# Altium integrated library WirelessDevice.IntLib: 29 symbols
Pins are listed as number, name and electrical type; pins without a type are passive.

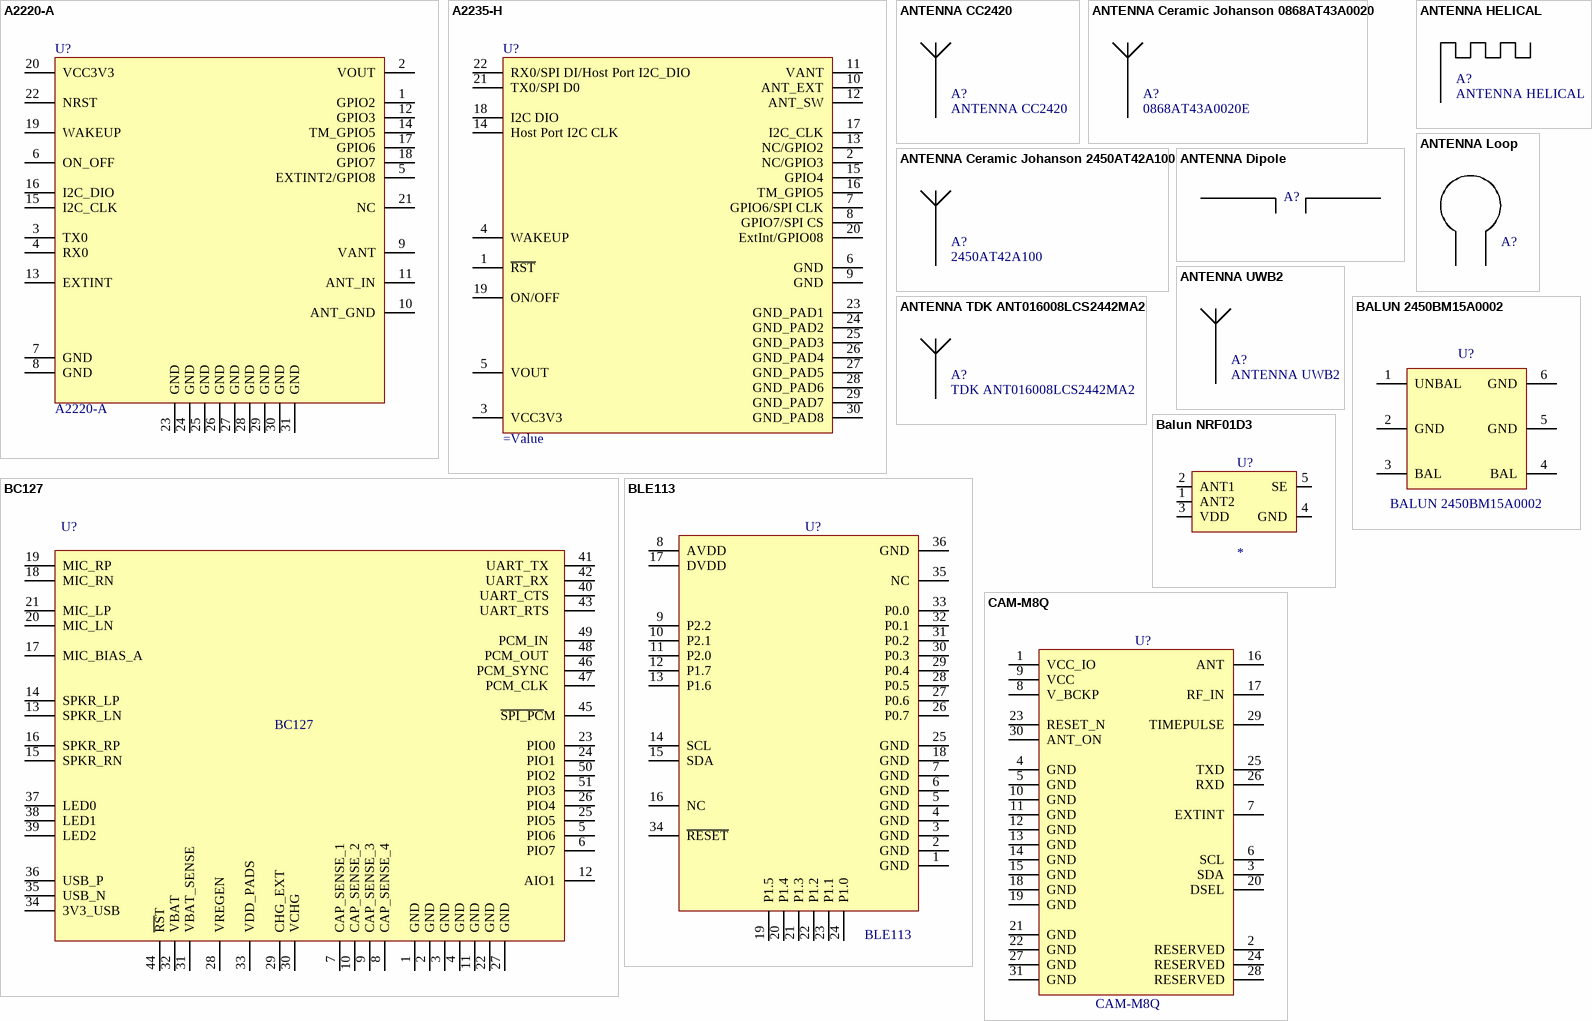
[diagram p0: symbols A2220-A to CAM-M8Q]

## A2220-A
designator U?
GPS Receiver Module; Value: A2220-A
footprint A2220-A (SMD, 22-Leads, Body 10.2x14.0mm)
pins: 1 GPIO2, 2 VOUT, 3 TX0, 4 RX0, 5 EXTINT2/GPIO8, 6 ON_OFF, 7 GND, 8 GND, 9 VANT, 10 ANT_GND, 11 ANT_IN, 12 GPIO3, 13 EXTINT, 14 TM_GPIO5, 15 I2C_CLK, 16 I2C_DIO, 17 GPIO6, 18 GPIO7, 19 WAKEUP, 20 VCC3V3, 21 NC, 22 NRST, 23 GND, 24 GND, 25 GND, 26 GND, 27 GND, 28 GND, 29 GND, 30 GND, 31 GND

## A2235-H
designator U?
Maestro’s GPS Antenna Receiver Module A2235-H
footprint A2235-H (SMD, 30-Leads, Body 17.8x16.6mm)
pins: 1 ~{RST} "Reset", 2 NC/GPIO3 "Leave open", 3 VCC3V3 "3.0 - 3.6 V DC", 4 WAKEUP "Status of digital section, Push-Pull output", 5 VOUT "Permanent 1.8V voltage output for up to 20mA current max", 6 GND "Ground (power supply)", 7 GPIO6/SPI CLK, 8 GPIO7/SPI CS, 9 GND "Ground (power supply)", 10 ANT_EXT "Leave open", 11 VANT "Host port I2C clock pin when module works in host port I2C mode", 12 ANT_SW "External interrupt input pin- reserved for future use, leave open", 13 NC/GPIO2 "Time Mark - 1PPS signal", 14 Host Port I2C CLK, 15 GPIO4, 16 TM_GPIO5 "Connect to push-pull output! This is mandatory! Connect it to WAKEUP pin for self-start mode", 17 I2C_CLK, 18 I2C DIO, 19 ON/OFF, 20 ExtInt/GPIO08 "Ground", 21 TX0/SPI D0 "Ground", 22 RX0/SPI DI/Host Port I2C_DIO "Ground", 23 GND_PAD1 "Ground", 24 GND_PAD2 "Ground", 25 GND_PAD3 "Ground", 26 GND_PAD4 "Ground", 27 GND_PAD5 "Ground", 28 GND_PAD6 "Ground", 29 GND_PAD7 "Ground", 30 GND_PAD8 "Ground"

## ANTENNA CC2420
designator A?
Value: ANTENNA CC2420
footprint ANTENNA CC2420 (PCB Antenna 2.4GHz)
pins: 1

## ANTENNA Ceramic Johanson 0868AT43A0020
designator A?, comment 0868AT43A0020E
ANTENNA Ceramic Johanson 0868AT43A0020; Value: 0868AT43A0020E
footprint ANTENNA Ceramic Johanson 0868AT43A0020 (868Mhz Ceramic Antenna C7.0x2.0)
footprint ANTENNA Ceramic Johanson 0868AT43A0020 With PI (868Mhz Ceramic Antenna C7.0x2.0)
pins: 1

## ANTENNA Ceramic Johanson 2450AT42A100
designator A?, comment 2450AT42A100
ANTENNA Ceramic Johanson 2450AT42A100; Value: 2450AT42A100
footprint ANTENNA Ceramic Johanson 2450AT42A100 (2.45Ghz Ceramic Antenna C5.0x2.0)
pins: 1

## ANTENNA Dipole
designator A?
ANTENNA Dipole
footprint ANTENNA LOG DIP ARRAY (PCB Antenna 6-8GHz)
pins: 1, 2

## ANTENNA HELICAL
designator A?
Value: ANTENNA HELICAL
footprint ANTENNA Helical PCB (PCB Antenna 868/915Mhz)
pins: 1

## ANTENNA Loop
designator A?
ANTENNA Loop
footprint ANTENNA MICRF113 (PCB Antenna 300MHz to 450MHz)
pins: 1, 2

## ANTENNA TDK ANT016008LCS2442MA2
designator A?, comment TDK ANT016008LCS2442MA2
Multilayer Chip Antennas  For 2.4GHz band; Value: TDK ANT016008LCS2442MA2
footprint Antenna TDK ANT016008LCS2442MA2
pins: 1

## ANTENNA UWB2
designator A?
ANTENNA PCB; Value: ANTENNA UWB2
footprint ANTENNA UWB2 (PCB Antenna 6-8GHz)
pins: 1

## BALUN 2450BM15A0002
designator U?
2.45 GHz Impedance Matched Balun; Value: BALUN 2450BM15A0002
footprint BALUN Johanson Technology 2450BM15A0002
pins: 1 UNBAL, 2 GND, 3 BAL, 4 BAL, 5 GND, 6 GND

## Balun NRF01D3
designator U?
50 Ω nominal input balun to nRF51422-QFAA,  nRF24LE1, nRF51822-QFAA/AB; Value: Balun NRF01D3
footprint Balun NRF01D3
pins: 1 ANT2, 2 ANT1, 3 VDD, 4 GND, 5 SE

## BC127
designator U?
Bluetooth Certified 4.0 Audio module; Value: BC127
footprint BC127 (PCB 11.8X18mm H3.2mm)
pins: 1 GND, 2 GND, 3 GND, 4 GND, 5 PIO6, 6 PIO7, 7 CAP_SENSE_1  , 8 CAP_SENSE_4  , 9 CAP_SENSE_3  , 10 CAP_SENSE_2  , 11 GND  , 12 AIO1, 13 SPKR_LN, 14 SPKR_LP  , 15 SPKR_RN  , 16 SPKR_RP, 17 MIC_BIAS_A, 18 MIC_RN  , 19 MIC_RP  , 20 MIC_LN  , 21 MIC_LP  , 22 GND  , 23 PIO0, 24 PIO1, 25 PIO5, 26 PIO4, 27 GND  , 28 VREGEN, 29 CHG_EXT, 30 VCHG, 31 VBAT_SENSE  , 32 VBAT  , 33 VDD_PADS  , 34 3V3_USB  , 35 USB_N , 36 USB_P  , 37 LED0, 38 LED1, 39 LED2, 40 UART_CTS  , 41 UART_TX  , 42 UART_RX  , 43 UART_RTS  , 44 ~{RS}T, 45 ~{SPI_PC}M, 46 PCM_SYNC  , 47 PCM_CLK  , 48 PCM_OUT  , 49 PCM_IN  , 50 PIO2, 51 PIO3

## BLE113
designator U?
BlueTooth Smart Module; Value: BLE113
footprint BLE113 (PCB 9.2x15.8)
pins: 1 GND, 2 GND, 3 GND, 4 GND, 5 GND, 6 GND, 7 GND, 8 AVDD, 9 P2.2, 10 P2.1, 11 P2.0, 12 P1.7, 13 P1.6, 14 SCL, 15 SDA, 16 NC, 17 DVDD, 18 GND, 19 P1.5, 20 P1.4, 21 P1.3, 22 P1.2, 23 P1.1, 24 P1.0, 25 GND, 26 P0.7, 27 P0.6, 28 P0.5, 29 P0.4, 30 P0.3, 31 P0.2, 32 P0.1, 33 P0.0, 34 ~{RESET}, 35 NC, 36 GND

## CAM-M8Q
designator U?
u-blox M8 concurrent GNSS antenna modules; Value: CAM-M8Q
footprint CAM-M8Q
pins: 1 VCC_IO, 2 RESERVED, 3 SDA, 4 GND, 5 GND, 6 SCL, 7 EXTINT, 8 V_BCKP, 9 VCC, 10 GND, 11 GND, 12 GND, 13 GND, 14 GND, 15 GND, 16 ANT, 17 RF_IN, 18 GND, 19 GND, 20 DSEL, 21 GND, 22 GND, 23 RESET_N, 24 RESERVED, 25 TXD, 26 RXD, 27 GND, 28 RESERVED, 29 TIMEPULSE, 30 ANT_ON, 31 GND

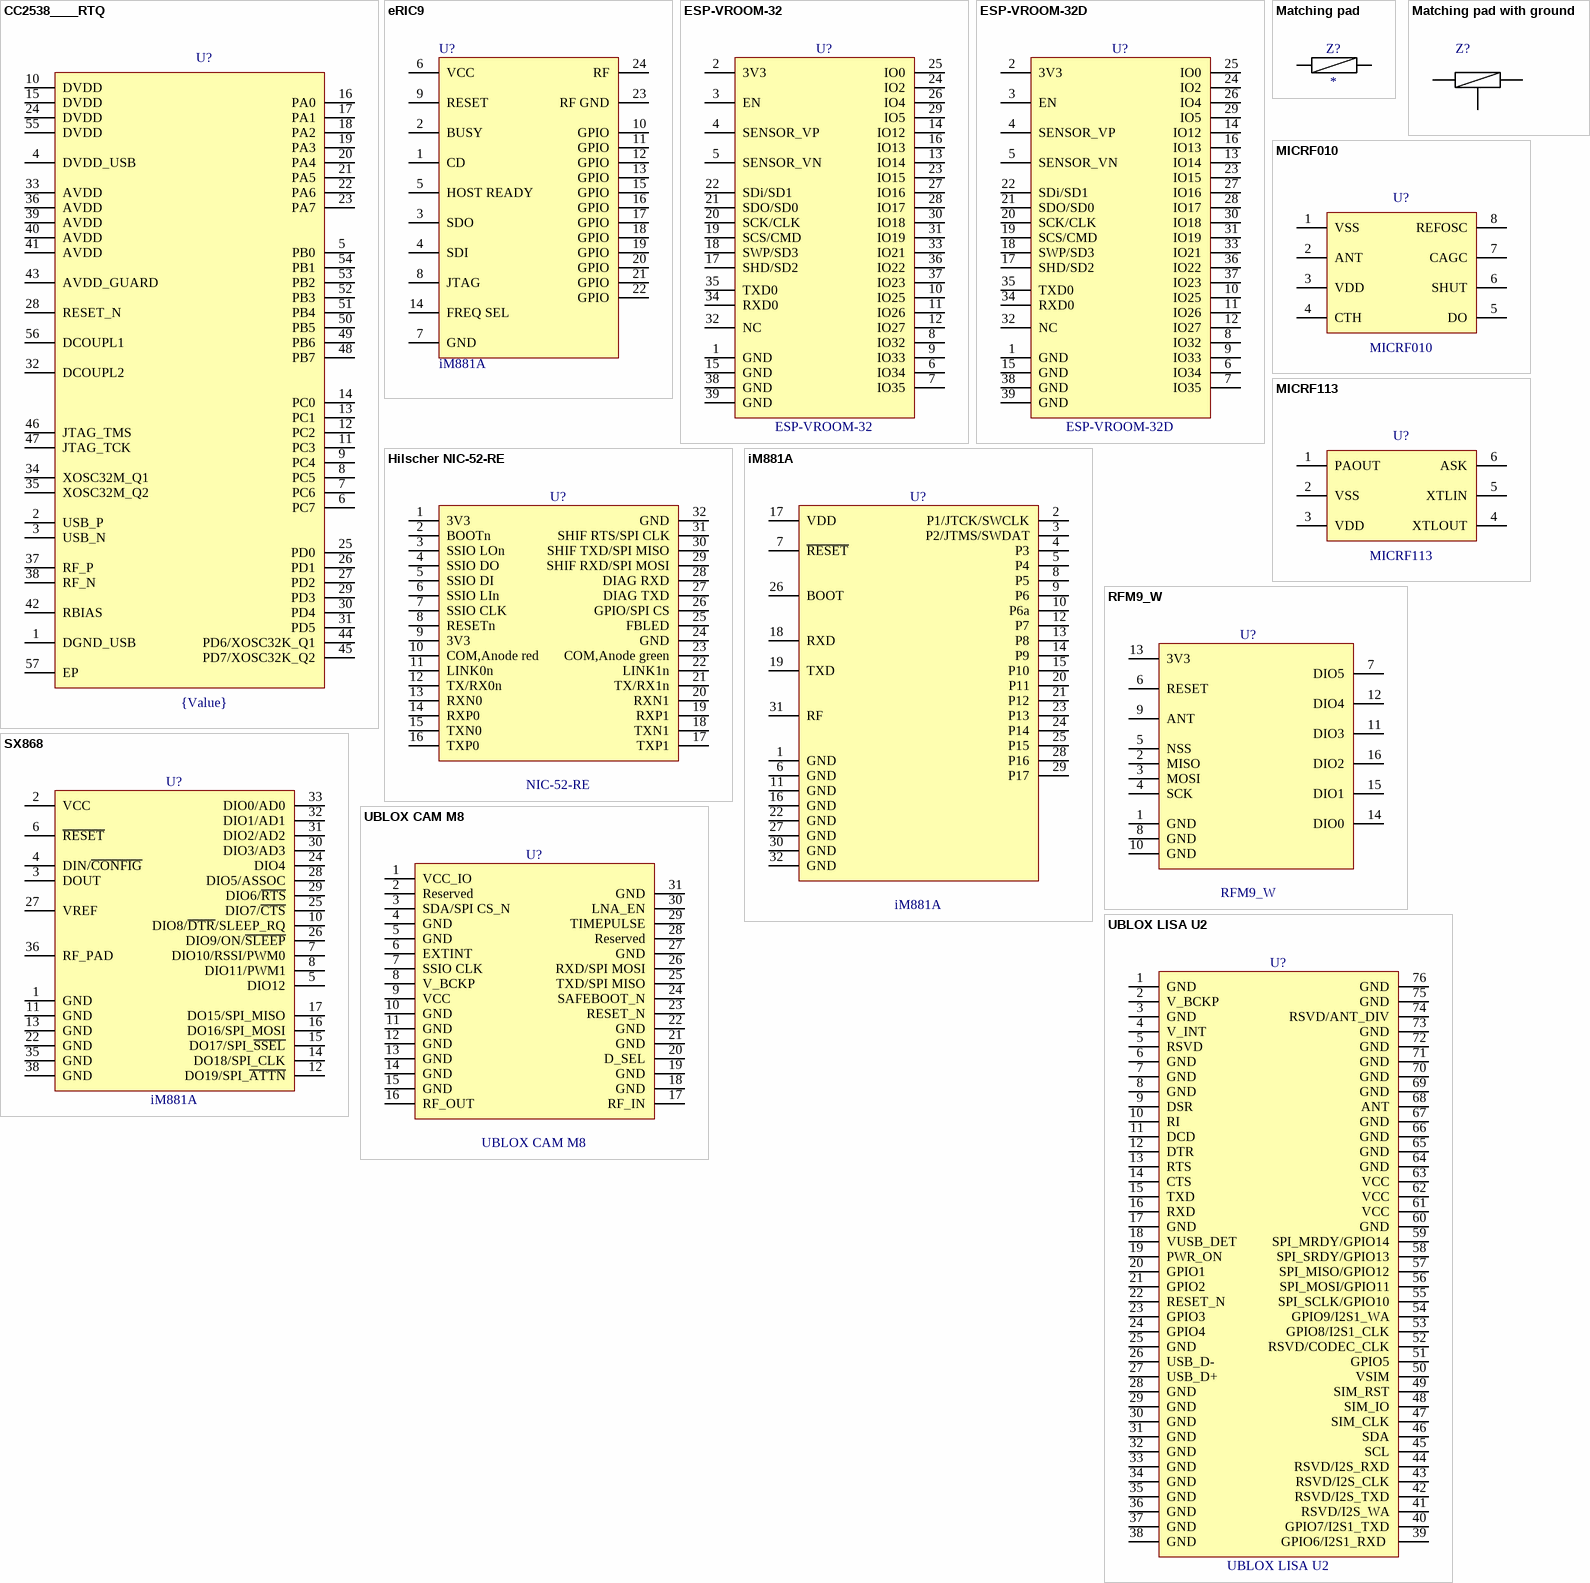
[diagram p1: symbols CC2538____RTQ to UBLOX LISA U2]

## CC2538____RTQ
designator U?, comment {Value}
Powerful Wireless Microcontroller System-On-Chip for 2.4-GHz IEEE 802.15.4,  6LoWPAN, and ZigBee® Applications; Value: {Value}
footprint QFN56 P0.5 T6.6X6.6 C8.0X8.0 H1.0
pins: 1 DGND_USB, 2 USB_P, 3 USB_N, 4 DVDD_USB, 5 PB0, 6 PC7, 7 PC6, 8 PC5, 9 PC4, 10 DVDD, 11 PC3, 12 PC2, 13 PC1, 14 PC0, 15 DVDD, 16 PA0, 17 PA1, 18 PA2, 19 PA3, 20 PA4, 21 PA5, 22 PA6, 23 PA7, 24 DVDD, 25 PD0, 26 PD1, 27 PD2, 28 RESET_N, 29 PD3, 30 PD4, 31 PD5, 32 DCOUPL2, 33 AVDD, 34 XOSC32M_Q1, 35 XOSC32M_Q2, 36 AVDD, 37 RF_P, 38 RF_N, 39 AVDD, 40 AVDD, 41 AVDD, 42 RBIAS, 43 AVDD_GUARD, 44 PD6/XOSC32K_Q1, 45 PD7/XOSC32K_Q2, 46 JTAG_TMS, 47 JTAG_TCK, 48 PB7, 49 PB6, 50 PB5, 51 PB4, 52 PB3, 53 PB2, 54 PB1, 55 DVDD, 56 DCOUPL1, 57 EP

## eRIC9
designator U?, comment iM881A
Radio Intelligent Controller; Value: iM881A
footprint eRIC9 (Radio Intelligent Controller)
pins: 1 CD, 2 BUSY, 3 SDO, 4 SDI, 5 HOST READY, 6 VCC, 7 GND, 8 JTAG, 9 RESET, 10 GPIO, 11 GPIO, 12 GPIO, 13 GPIO, 14 FREQ SEL, 15 GPIO, 16 GPIO, 17 GPIO, 18 GPIO, 19 GPIO, 20 GPIO, 21 GPIO, 22 GPIO, 23 RF GND, 24 RF

## ESP-VROOM-32
designator U?
Generic WI-FI+BT+BLE MCU module; Value: ESP-VROOM-32
footprint ESP-VROOM-32 (PCB 18X25.5mm H3.3mm)
pins: 1 GND, 2 3V3, 3 EN, 4 SENSOR_VP, 5 SENSOR_VN, 6 IO34, 7 IO35, 8 IO32, 9 IO33, 10 IO25, 11 IO26, 12 IO27, 13 IO14, 14 IO12, 15 GND, 16 IO13, 17 SHD/SD2, 18 SWP/SD3, 19 SCS/CMD, 20 SCK/CLK, 21 SDO/SD0, 22 SDi/SD1, 23 IO15, 24 IO2, 25 IO0, 26 IO4, 27 IO16, 28 IO17, 29 IO5, 30 IO18, 31 IO19, 32 NC, 33 IO21, 34 RXD0, 35 TXD0, 36 IO22, 37 IO23, 38 GND, 39 GND

## ESP-VROOM-32D
designator U?
Generic WI-FI+BT+BLE MCU module; Value: ESP-VROOM-32D
footprint ESP-VROOM-32D (Footprint not found)
pins: 1 GND, 2 3V3, 3 EN, 4 SENSOR_VP, 5 SENSOR_VN, 6 IO34, 7 IO35, 8 IO32, 9 IO33, 10 IO25, 11 IO26, 12 IO27, 13 IO14, 14 IO12, 15 GND, 16 IO13, 17 SHD/SD2, 18 SWP/SD3, 19 SCS/CMD, 20 SCK/CLK, 21 SDO/SD0, 22 SDi/SD1, 23 IO15, 24 IO2, 25 IO0, 26 IO4, 27 IO16, 28 IO17, 29 IO5, 30 IO18, 31 IO19, 32 NC, 33 IO21, 34 RXD0, 35 TXD0, 36 IO22, 37 IO23, 38 GND, 39 GND

## Hilscher NIC-52-RE
designator U?, comment NIC-52-RE
Communication for simple slave devices without own host processor; Value: NIC-52-RE
footprint Hilscher NIC-52-RE (DIL32 compatible pcb adapter)
pins: 1 3V3, 2 BOOTn, 3 SSIO LOn, 4 SSIO DO, 5 SSIO DI, 6 SSIO LIn, 7 SSIO CLK, 8 RESETn, 9 3V3, 10 COM,Anode red, 11 LINK0n, 12 TX/RX0n, 13 RXN0, 14 RXP0, 15 TXN0, 16 TXP0, 17 TXP1, 18 TXN1, 19 RXP1, 20 RXN1, 21 TX/RX1n, 22 LINK1n, 23 COM,Anode green, 24 GND, 25 FBLED, 26 GPIO/SPI CS, 27 DIAG TXD, 28 DIAG RXD, 29 SHIF RXD/SPI MOSI, 30 SHIF TXD/SPI MISO, 31 SHIF RTS/SPI CLK, 32 GND

## iM881A
designator U?
Radio Module for 868MHz; Value: iM881A
footprint iM881A (CC, 32-Pins, Body 20.0x25.00mmx3.3.00mm, Pitch 2.00mm, IPC Medium Density)
pins: 1 GND, 2 P1/JTCK/SWCLK, 3 P2/JTMS/SWDAT, 4 P3, 5 P4, 6 GND, 7 ~{RESET}, 8 P5, 9 P6, 10 P6a, 11 GND, 12 P7, 13 P8, 14 P9, 15 P10, 16 GND, 17 VDD, 18 RXD, 19 TXD, 20 P11, 21 P12, 22 GND, 23 P13, 24 P14, 25 P15, 26 BOOT, 27 GND, 28 P16, 29 P17, 30 GND, 31 RF, 32 GND

## Matching pad 
designator Z?
Matching pad; Value: *
footprint Matching pad 1005
pins: 1, 2

## Matching pad with ground
designator Z?
Antenna matching pad with ground
footprint Matching pad 1005 with Ground
pins: 1, 2, 3 GND

## MICRF010
designator U?
QwikRadio® Low-Power UHF Receiver; Value: MICRF010
footprint SO8 P1.27 C4.0X5.0 H1.75 (8-Pin Small Outline Integrated Circuit 1.27 mm Pitch, IPC Medium Density)
pins: 1 VSS, 2 ANT, 3 VDD, 4 CTH, 5 DO, 6 SHUT, 7 CAGC, 8 REFOSC

## MICRF113
designator U?
300MHz to 450 MHz + 10dBm ASK Transmitter; Value: MICRF113
footprint SOT23-6 P0.95 C1.5x3.0 H1.3 (SOT23, 6-Leads, Body 1.6x3.0mm, Pitch 0.95mm, IPC Medium Density)
pins: 1 PAOUT, 2 VSS, 3 VDD, 4 XTLOUT, 5 XTLIN, 6 ASK

## RFM9_W
designator U?
Low Power Long Range Transceiver Module; Value: RFM9_W
footprint RFM9_W (Low Power Long Range Transceiver Module)
pins: 1 GND, 2 MISO, 3 MOSI, 4 SCK, 5 NSS, 6 RESET, 7 DIO5, 8 GND, 9 ANT, 10 GND, 11 DIO3, 12 DIO4, 13 3V3, 14 DIO0, 15 DIO1, 16 DIO2

## SX868
designator U?, comment iM881A
XBee Radio Frequency (RF) Module; Value: iM881A
footprint SX868 (PCB 21.9X33.8mm H3.6mm)
pins: 1 GND, 2 VCC, 3 DOUT, 4 DIN/~{CONFIG}, 5 DIO12, 6 ~{RESET}, 7 DIO10/RSSI/PWM0, 8 DIO11/PWM1, 10 DIO8/~{DTR}/SLEEP_RQ, 11 GND, 12 DO19/SPI_~{ATTN}, 13 GND, 14 DO18/SPI_CLK, 15 DO17/SPI_~{SSEL}, 16 DO16/SPI_MOSI, 17 DO15/SPI_MISO, 22 GND, 24 DIO4, 25 DIO7/~{CTS}, 26 DIO9/ON/~{SLEEP}, 27 VREF, 28 DIO5/ASSOC, 29 DIO6/~{RTS}, 30 DIO3/AD3, 31 DIO2/AD2, 32 DIO1/AD1, 33 DIO0/AD0, 35 GND, 36 RF_PAD, 38 GND

## UBLOX CAM M8
designator U?
u-blox M8 Concurrent GNSS Antenna Modules; Value: UBLOX CAM M8
footprint UBLOX CAM M8 (LCC, 36-Pins, Body 9.60x14.00mmx2.00mm, Pitch 1.00mm, IPC Medium Density)
pins: 1 VCC_IO, 2 Reserved, 3 SDA/SPI CS_N, 4 GND, 5 GND, 6 EXTINT, 7 SSIO CLK, 8 V_BCKP, 9 VCC, 10 GND, 11 GND, 12 GND, 13 GND, 14 GND, 15 GND, 16 RF_OUT, 17 RF_IN, 18 GND, 19 GND, 20 D_SEL, 21 GND, 22 GND, 23 RESET_N, 24 SAFEBOOT_N, 25 TXD/SPI MISO, 26 RXD/SPI MOSI, 27 GND, 28 Reserved, 29 TIMEPULSE, 30 LNA_EN, 31 GND

## UBLOX LISA U2
designator U?
HSPA(+) modules with 2G fallback; Value: UBLOX LISA U2
footprint UBLOX LISA U2 (LCC, 76-Pins, Body 22.40x33.20mmx2.60mm, Pitch 1.10mm)
pins: 1 GND, 2 V_BCKP, 3 GND, 4 V_INT, 5 RSVD, 6 GND, 7 GND, 8 GND, 9 DSR, 10 RI, 11 DCD, 12 DTR, 13 RTS, 14 CTS, 15 TXD, 16 RXD, 17 GND, 18 VUSB_DET, 19 PWR_ON, 20 GPIO1, 21 GPIO2, 22 RESET_N, 23 GPIO3, 24 GPIO4, 25 GND, 26 USB_D-, 27 USB_D+, 28 GND, 29 GND, 30 GND, 31 GND, 32 GND, 33 GND, 34 GND, 35 GND, 36 GND, 37 GND, 38 GND, 39 GPIO6/I2S1_RXD , 40 GPIO7/I2S1_TXD, 41 RSVD/I2S_WA, 42 RSVD/I2S_TXD, 43 RSVD/I2S_CLK, 44 RSVD/I2S_RXD, 45 SCL, 46 SDA, 47 SIM_CLK, 48 SIM_IO, 49 SIM_RST, 50 VSIM, 51 GPIO5, 52 RSVD/CODEC_CLK, 53 GPIO8/I2S1_CLK, 54 GPIO9/I2S1_WA, 55 SPI_SCLK/GPIO10, 56 SPI_MOSI/GPIO11, 57 SPI_MISO/GPIO12, 58 SPI_SRDY/GPIO13, 59 SPI_MRDY/GPIO14, 60 GND, 61 VCC, 62 VCC, 63 VCC, 64 GND, 65 GND, 66 GND, 67 GND, 68 ANT, 69 GND, 70 GND, 71 GND, 72 GND, 73 GND, 74 RSVD/ANT_DIV, 75 GND, 76 GND